# Altium footprint library USB4105-GF-A.PcbLib: 1 footprints
Each footprint in its own frame and in the unit in brackets; x right, y up, seen from the top. Pads: shape width x height; smd on the part's side, far side on the other; paste and mask are expansions set on the pad; w line width, h text height; cw(c..) or ccw(c..) is an arc to the next point about the centre after c.
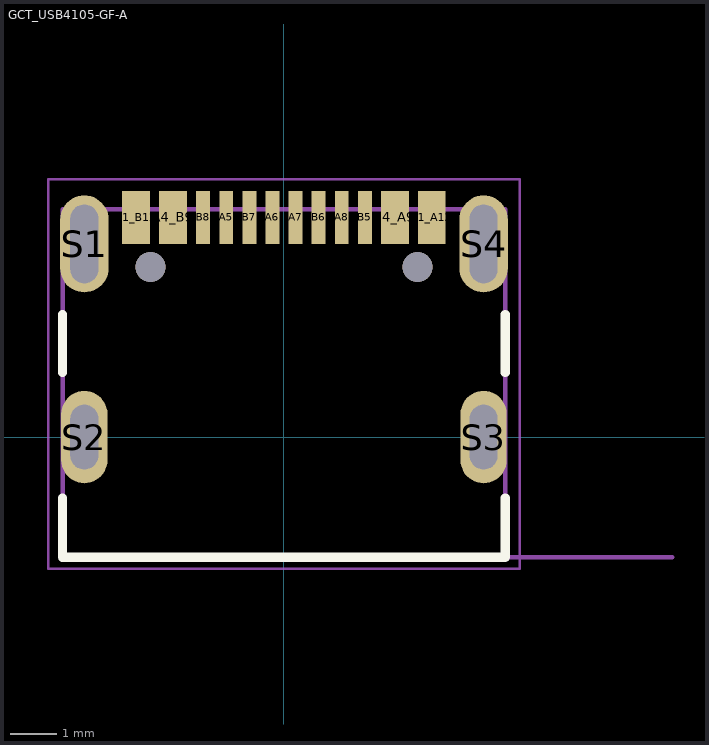
[diagram p0: the footprint, top view; thin cyan lines are the x and y axes]

## GCT_USB4105-GF-A [mm]
pads (18):
  rect 0.6x1.15 smd: A1_B12(-3.2,4.755) A4_B9(-2.4,4.755) B1_A12(3.2,4.755) B4_A9(2.4,4.755)
  rect 0.3x1.15 smd: A5(-1.25,4.755) A6(-0.25,4.755) A7(0.25,4.755) A8(1.25,4.755) B5(1.75,4.755) B6(0.75,4.755) B7(-0.75,4.755) B8(-1.75,4.755)
  oval 1.05x2.1 hole 0.6 slot 1.7 at 90 deg: S1(-4.32,4.18) S4(4.32,4.18)
  oval 1x2 hole 0.6 slot 1.4 at 90 deg: S2(-4.32,0) S3(4.32,0)
  round 0.65 hole 0.65 unplated: ""(-2.89,3.68) ""(2.89,3.68)
Top Overlay:
  lines w0.2: -4.79,-1.32 -4.79,-2.6 4.79,-2.6 4.79,-1.32 ; -4.79,1.4 -4.79,2.65 ; 4.79,1.4 4.79,2.65
Mechanical 13:
  lines w0.1: 4.8,-2.6 8.4,-2.6 ; -4.79,-2.6 4.79,-2.6 4.79,4.93 -4.79,4.93 -4.79,-2.6
  text "PCB EDGE" at 5.4,-2.5 h0.41
Mechanical 15:
  lines w0.05: -5.1,-2.85 -5.1,5.58 5.1,5.58 5.1,-2.85 -5.1,-2.85
3D body "step_temp.STEP": height 3.31, standoff -0.85, extent -4.79,-2.6 4.79,5.11